# Altium integrated library Sensor - Magnetic.IntLib: 5 symbols
Pins are listed as number, name and electrical type; pins without a type are passive.

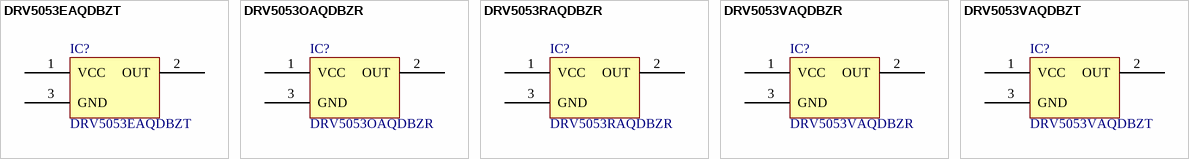
[diagram p0: symbols DRV5053EAQDBZT to DRV5053VAQDBZT]

## DRV5053EAQDBZT
designator IC?
2.5 TO 38 V ANALOG BIPOLAR HALL; Manufacturer: Texas Instruments; Axis: Single; Sensing Range: 18mT; Voltage - Supply: 2.5 V ~ 38 V; Current - Supply (Max): 3.6mA; Current - Output (Max): 2.3mA; Output Type: Analog Voltage; Bandwidth: 20kHz; Part Number: DRV5053EAQDBZT; PartId: 21127; Supplier 1: Digi-Key; Supplier Part Number 1: 296-44474-2-ND; ComponentLink1Description: Datasheet; ComponentLink1URL: http://www.ti.com/lit/ds/symlink/drv5053.pdf; ComponentLink2Description: Digi-Key Listing; ComponentLink2URL: https://www.digikey.com/product-detail/en/texas-instruments/DRV5053EAQDBZT/296-44474-2-ND/6110539; Price: 0.966; Type: Linear; Operating Temperature: -40C ~ 125C (TA); Device Package: TO-236-3, SC-59, SOT-23-3; Part Status: Active; Technology: Hall Effect
footprint TI SOT-23-3 DBZ
pins: 1 VCC, 2 OUT, 3 GND

## DRV5053OAQDBZR
designator IC?
IC HALL SENSOR; Manufacturer: Texas Instruments; Axis: Single; Sensing Range: 73mT; Voltage - Supply: 2.5 V ~ 38 V; Current - Supply (Max): 3.6mA; Current - Output (Max): 2.3mA; Output Type: Analog Voltage; Bandwidth: 20kHz; Part Number: DRV5053OAQDBZR; PartId: 21125; Supplier 1: Digi-Key; Supplier Part Number 1: 296-38457-2-ND; ComponentLink1Description: Datasheet; ComponentLink1URL: http://www.ti.com/lit/ds/symlink/drv5053.pdf; ComponentLink2Description: Digi-Key Listing; ComponentLink2URL: https://www.digikey.com/product-detail/en/texas-instruments/DRV5053OAQDBZR/296-38457-2-ND/5015736; Price: 0.5247; Type: Linear; Operating Temperature: -40C ~ 125C (TA); Device Package: TO-236-3, SC-59, SOT-23-3; Part Status: Active; Features: Temperature Compensated; Technology: Hall Effect
footprint TI SOT-23-3 DBZ
pins: 1 VCC, 2 OUT, 3 GND

## DRV5053RAQDBZR
designator IC?
IC HALL SENSOR DGTL SW SOT23-3; Manufacturer: Texas Instruments; Axis: Single; Sensing Range: 18mT; Voltage - Supply: 2.5 V ~ 38 V; Current - Supply (Max): 3.6mA; Current - Output (Max): 2.3mA; Output Type: Analog Voltage; Bandwidth: 20kHz; Part Number: DRV5053RAQDBZR; PartId: 21126; Supplier 1: Digi-Key; Supplier Part Number 1: 296-38459-2-ND; ComponentLink1Description: Datasheet; ComponentLink1URL: http://www.ti.com/lit/ds/symlink/drv5053.pdf; ComponentLink2Description: Digi-Key Listing; ComponentLink2URL: https://www.digikey.com/product-detail/en/texas-instruments/DRV5053RAQDBZR/296-38459-2-ND/5012682; Price: 0.5247; Type: Linear; Operating Temperature: -40C ~ 125C (TA); Device Package: TO-236-3, SC-59, SOT-23-3; Part Status: Active; Features: Temperature Compensated; Technology: Hall Effect
footprint TI SOT-23-3 DBZ
pins: 1 VCC, 2 OUT, 3 GND

## DRV5053VAQDBZR
designator IC?
IC HALL SENSOR; Manufacturer: Texas Instruments; Axis: Single; Sensing Range: 9mT; Voltage - Supply: 2.5 V ~ 38 V; Current - Supply (Max): 3.6mA; Current - Output (Max): 2.3mA; Output Type: Analog Voltage; Bandwidth: 20kHz; Part Number: DRV5053VAQDBZR; PartId: 21124; Supplier 1: Digi-Key; Supplier Part Number 1: 296-38460-2-ND; ComponentLink1Description: Datasheet; ComponentLink1URL: http://www.ti.com/lit/ds/symlink/drv5053.pdf; ComponentLink2Description: Digi-Key Listing; ComponentLink2URL: https://www.digikey.com/product-detail/en/texas-instruments/DRV5053VAQDBZR/296-38460-2-ND/5015738; Price: 0.5247; Type: Linear; Operating Temperature: -40C ~ 125C (TA); Device Package: TO-236-3, SC-59, SOT-23-3; Part Status: Active; Features: Temperature Compensated; Technology: Hall Effect
footprint TI SOT-23-3 DBZ
pins: 1 VCC, 2 OUT, 3 GND

## DRV5053VAQDBZT
designator IC?
2.5 TO 38 V ANALOG BIPOLAR HALL; Manufacturer: Texas Instruments; Axis: Single; Sensing Range: 9mT; Voltage - Supply: 2.5 V ~ 38 V; Current - Supply (Max): 3.6mA; Current - Output (Max): 2.3mA; Output Type: Analog Voltage; Bandwidth: 20kHz; Part Number: DRV5053VAQDBZT; PartId: 21128; Supplier 1: Digi-Key; Supplier Part Number 1: 296-44475-2-ND; ComponentLink1Description: Datasheet; ComponentLink1URL: http://www.ti.com/lit/ds/symlink/drv5053.pdf; ComponentLink2Description: Digi-Key Listing; ComponentLink2URL: https://www.digikey.com/product-detail/en/texas-instruments/DRV5053VAQDBZT/296-44475-2-ND/6110540; Price: 0.966; Type: Linear; Operating Temperature: -40C ~ 150C; Device Package: TO-236-3, SC-59, SOT-23-3; Part Status: Active; Technology: Hall Effect
footprint TI SOT-23-3 DBZ
pins: 1 VCC, 2 OUT, 3 GND